# EAGLE library part 61301111821 (library Wurth_Elektronik2)
WR-PHD 2.54mm Socket Header, 11 Pins =>Code : Con_BTB_PHD_2.54_1_THT_61301111121 <http://katalog.we-online.de/media/images/eican/Con_BTB_PHD_2.54_1_THT_6130xx11121_pf2.jpg> Details see: http://katalog.we-online.de/en/em/613_0xx_111_21 Created 2014-05-29, Karrer Zheng 2014 (C) Würth Elektronik
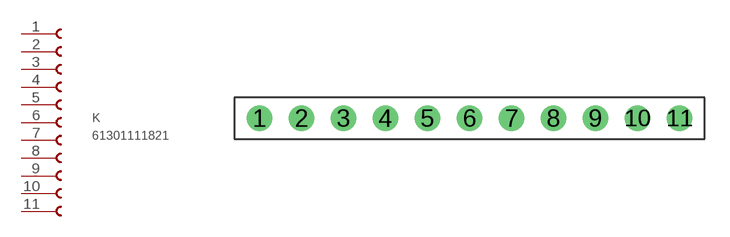
[diagram p95: symbol with the pads of 61301111821; footprint 61301111821]

Designator prefix K

## 61301111821  [61301111821]
1  1  pas
2  2  pas
3  3  pas
4  4  pas
5  5  pas
6  6  pas
7  7  pas
8  8  pas
9  9  pas
10  10  pas
11  11  pas

## Footprint 61301111821 (pad centres in mm)
WR-PHD 2.54mm Socket Header, 11 Pins
drill 1.02: 1 -12.7,0; 2 -10.16,0; 3 -7.62,0; 4 -5.08,0; 5 -2.54,0; 6 0,0; 7 2.54,0; 8 5.08,0; 9 7.62,0; 10 10.16,0; 11 12.7,0